# Altium footprint library AWSAM_5.PcbLib: 4 footprints
Each footprint in its own frame and in the unit in brackets; x right, y up, seen from the top. Pads: shape width x height; smd on the part's side, far side on the other; paste and mask are expansions set on the pad; w line width, h text height; cw(c..) or ccw(c..) is an arc to the next point about the centre after c.
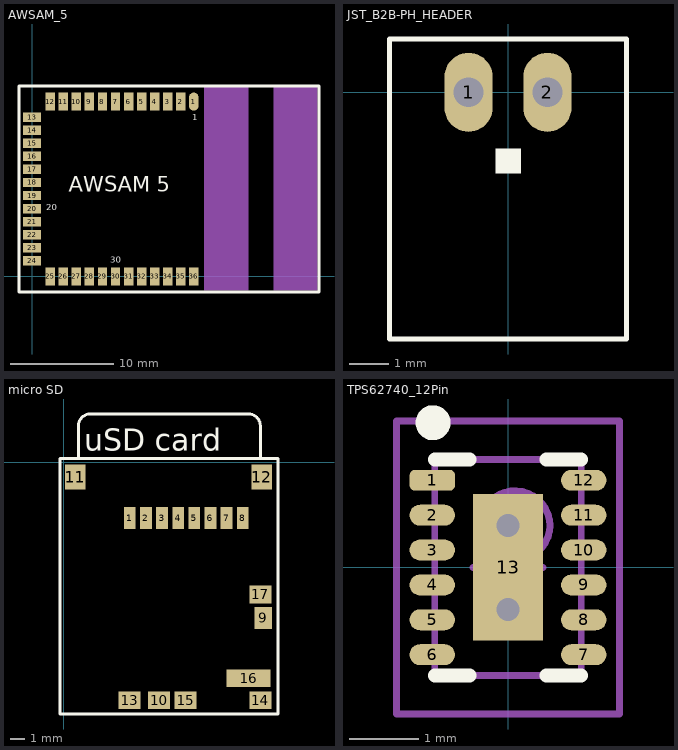
[diagram p0: the footprints below, top view; thin cyan lines are the x and y axes]

## AWSAM_5 [mil] "Footprint for AWSAM_5"
height 165.35
pads (36):
  oval 36x70 smd: 1(620,670)
  rect 36x70 smd: 2(570,670) 3(520,670) 4(470,670) 5(420,670) 6(370,670) 7(320,670) 8(270,670) 9(220,670) 10(170,670) 11(120,670) 12(70,670) 25(70,0) 26(120,0) 27(170,0) 28(220,0) 29(270,0) 30(320,0) 31(370,0) 32(420,0) 33(470,0) 34(520,0) 35(570,0) 36(620,0)
  rect 70x36 smd: 13(0,610) 14(0,560) 15(0,510) 16(0,460) 17(0,410) 18(0,360) 19(0,310) 20(0,260) 21(0,210) 22(0,160) 23(0,110) 24(0,60)
Top Overlay:
  lines w10: -50,-60 1100,-60 1100,730 -50,730 -50,-60
  text "AWSAM 5" at 140,305 h100
  text "1" at 615,590 h40
  text "20" at 55,245 h40
  text "30" at 300,45 h40
Mechanical 1:
  rectangle: 660,-55 830,730
  rectangle: 925,-55 1095,730
  text "NO Copper Zone" at 900,5 h100
3D body: height 170, standoff 0, extent 0,0 1100,685

## JST_B2B-PH_HEADER [mm]
pads (2):
  oval 1.219x2 hole 0.75: 1(-1,0) 2(1,0)
Top Overlay:
  rectangle: -0.318,-2.06 0.33,-1.425
  lines w0.127: -3,-6.25 3,-6.25 3,1.35 -3,1.35 -3,-6.25

## micro SD [mm] "Molex 502570 - http://www.molex.com/pdm_docs/sd/5025700893_sd.pdf"
pads (17):
  rect 0.8x1.5 smd: 1(4.5,-3.8) 2(5.6,-3.8) 3(6.7,-3.8) 4(7.8,-3.8) 5(8.9,-3.8) 6(10,-3.8) 7(11.1,-3.8) 8(12.2,-3.8)
  rect 1.2x1.5 smd: 9(13.6,-10.6)
  rect 1.5x1.2 smd: 10(6.5,-16.2) 13(4.5,-16.2) 14(13.4,-16.2) 15(8.3,-16.2) 17(13.4,-9)
  rect 1.4x1.7 smd: 11(0.8,-1) 12(13.5,-1)
  rect 3x1.2 smd: 16(12.6,-14.7)
Top Overlay:
  lines w0.203: 1,0.254 1,2.5 cw(c1.8,2.5) 1.8,3.3 12.6,3.3 cw(c12.6,2.5) 13.4,2.5 13.4,0.254 ; -0.254,-17.145 -0.254,0.254 14.605,0.254 14.605,-17.145 -0.254,-17.145
  text "uSD card" at 1.4,0.8 h1.5

## TPS62740_12Pin [mm] "QFN, 12-Leads, Body 2.1x3.1mm (max), Pitch 0.50mm, IPC Medium Density"
height 0.8
pads (13):
  rrect50% 0.65x0.3 smd: 1(-1.085,1.25)
  oval 0.65x0.3 smd: 2(-1.085,0.75) 3(-1.085,0.25) 4(-1.085,-0.25) 5(-1.085,-0.75) 6(-1.085,-1.25) 7(1.085,-1.25) 8(1.085,-0.75) 9(1.085,-0.25) 10(1.085,0.25) 11(1.085,0.75) 12(1.085,1.25)
  rect 1x2.1 smd: 13(0,0)
via 0,0.6 diameter 0.66 hole 0.33
via 0,-0.6 diameter 0.66 hole 0.33
Top Overlay:
  circle w0.25: c-1.075,2.075 r0.125
  lines w0.2: -1.05,-1.55 -0.55,-1.55 ; -1.05,1.55 -0.55,1.55 ; 0.55,-1.55 1.05,-1.55 ; 0.55,1.55 1.05,1.55
Mechanical 13:
  circle w0.1: c0.1,0.6 r0.5
  lines w0.1: -1.05,-1.55 1.05,-1.55 1.05,1.55 -1.05,1.55 -1.05,-1.55
Mechanical 15:
  lines w0.1: -0.5,0 0.5,0 ; 0,-0.5 0,0.5 ; -1.6,-2.1 1.6,-2.1 1.6,2.1 -1.6,2.1 -1.6,-2.1
3D body: height 0.8, standoff 0.08, extent -1.05,-1.55 1.05,1.55